# Altium footprint library GreenLED.PcbLib: 3 footprints
Each footprint in its own frame and in the unit in brackets; x right, y up, seen from the top. Pads: shape width x height; smd on the part's side, far side on the other; paste and mask are expansions set on the pad; w line width, h text height; cw(c..) or ccw(c..) is an arc to the next point about the centre after c.
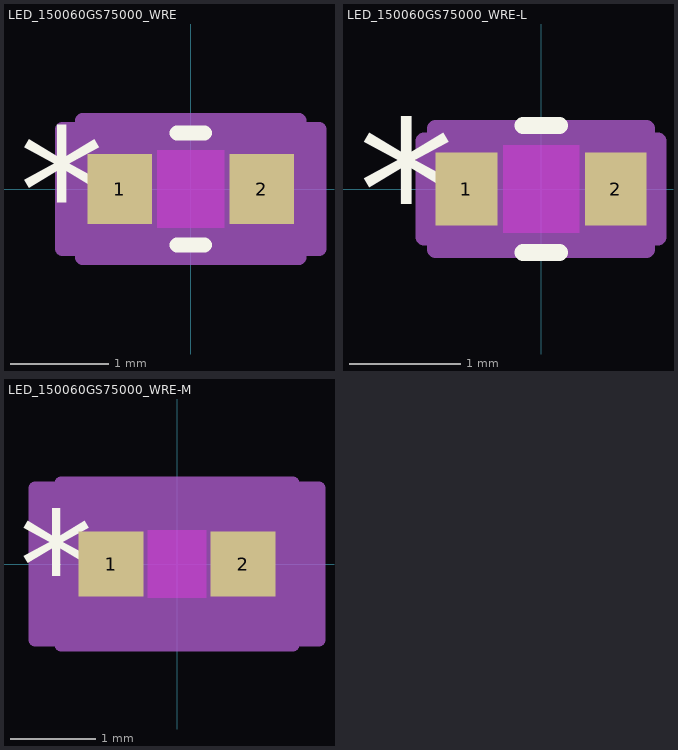
[diagram p0: the footprints below, top view; thin cyan lines are the x and y axes]

## LED_150060GS75000_WRE [mil]
pads (2):
  rect 26x28 smd paste+0 mask+0: 1(-28.5,0) 2(28.5,0)
Top Layer keep-out:
  region: -13.5,-15.5 -13.5,15.5 13.5,15.5 13.5,-15.5
Top Overlay:
  lines w6: -5.53,-22.5 5.53,-22.5 ; -5.53,22.5 5.53,22.5
  text "*" at -69,-25 h50
Keep-Out Layer:
  region: -13.5,-15.5 -13.5,15.5 13.5,15.5 13.5,-15.5
Mechanical 13:
  lines w1: -33.5,-8.75 -24.75,-17.5 ; -33.5,8.75 -24.75,17.5 ; -33.5,-14 -33.5,14 ; -33.5,-14 -33.5,14 ; -33.5,-14 -33.5,-14 ; -33.5,14 -33.5,14 ; 33.5,-14 33.5,14 ; 33.5,-14 33.5,-14 ; 33.5,-14 33.5,14 ; 33.5,14 33.5,14 ; -33.5,-17.5 33.5,-17.5 33.5,17.5 -33.5,17.5 -33.5,-17.5
  text "*" at -36,-25 h50
Mechanical 15:
  region: -43.5,-24 -51.5,-24 -51.5,24 -43.5,24 -43.5,27.5 43.5,27.5 43.5,24 51.5,24 51.5,-24 43.5,-24 43.5,-27.5 -43.5,-27.5
  lines w6: -51.5,-24 -51.5,24 -43.5,24 -43.5,27.5 43.5,27.5 43.5,24 51.5,24 51.5,-24 43.5,-24 43.5,-27.5 -43.5,-27.5 -43.5,-24 -51.5,-24
3D body "LED_150060GS75000_WRE.step": height 32.24, standoff 2.01, extent -33.5,-17.48 33.5,17.48

## LED_150060GS75000_WRE-L [mil]
pads (2):
  rect 22x26 smd paste+0 mask+0: 1(-26.5,0) 2(26.5,0)
Top Layer keep-out:
  region: -13.5,-15.5 -13.5,15.5 13.5,15.5 13.5,-15.5
Top Overlay:
  lines w6: -6.48,-22.5 6.48,-22.5 ; -6.48,22.5 6.48,22.5
  text "*" at -65,-25 h50
Keep-Out Layer:
  region: -13.5,-15.5 -13.5,15.5 13.5,15.5 13.5,-15.5
Mechanical 13:
  lines w1: -33.5,-8.75 -24.75,-17.5 ; -33.5,8.75 -24.75,17.5 ; -33.5,-14 -33.5,14 ; -33.5,-14 -33.5,14 ; -33.5,-14 -33.5,-14 ; -33.5,14 -33.5,14 ; 33.5,-14 33.5,14 ; 33.5,-14 33.5,-14 ; 33.5,-14 33.5,14 ; 33.5,14 33.5,14 ; -33.5,-17.5 33.5,-17.5 33.5,17.5 -33.5,17.5 -33.5,-17.5
  text "*" at -36,-25 h50
Mechanical 15:
  region: -37.5,-17 -41.5,-17 -41.5,17 -37.5,17 -37.5,21.5 37.5,21.5 37.5,17 41.5,17 41.5,-17 37.5,-17 37.5,-21.5 -37.5,-21.5
  lines w6: -41.5,-17 -41.5,17 -37.5,17 -37.5,21.5 37.5,21.5 37.5,17 41.5,17 41.5,-17 37.5,-17 37.5,-21.5 -37.5,-21.5 -37.5,-17 -41.5,-17
3D body "LED_150060GS75000_WRE.step": height 32.24, standoff 2.01, extent -33.5,-17.48 33.5,17.48

## LED_150060GS75000_WRE-M [mil]
pads (2):
  rect 30x30 smd paste+0 mask+0: 1(-30.5,0) 2(30.5,0)
Top Layer keep-out:
  region: -13.5,-15.5 -13.5,15.5 13.5,15.5 13.5,-15.5
Top Overlay:
  text "*" at -73,-25 h50
Keep-Out Layer:
  region: -13.5,-15.5 -13.5,15.5 13.5,15.5 13.5,-15.5
Mechanical 13:
  lines w1: -33.5,-8.75 -24.75,-17.5 ; -33.5,8.75 -24.75,17.5 ; -33.5,-14 -33.5,14 ; -33.5,-14 -33.5,14 ; -33.5,-14 -33.5,-14 ; -33.5,14 -33.5,14 ; 33.5,-14 33.5,14 ; 33.5,-14 33.5,-14 ; 33.5,-14 33.5,14 ; 33.5,14 33.5,14 ; -33.5,-17.5 33.5,-17.5 33.5,17.5 -33.5,17.5 -33.5,-17.5
  text "*" at -36,-25 h50
Mechanical 15:
  region: -53.5,-35 -65.5,-35 -65.5,35 -53.5,35 -53.5,37.5 53.5,37.5 53.5,35 65.5,35 65.5,-35 53.5,-35 53.5,-37.5 -53.5,-37.5
  lines w6: -65.5,-35 -65.5,35 -53.5,35 -53.5,37.5 53.5,37.5 53.5,35 65.5,35 65.5,-35 53.5,-35 53.5,-37.5 -53.5,-37.5 -53.5,-35 -65.5,-35
3D body "LED_150060GS75000_WRE.step": height 32.24, standoff 2.01, extent -33.5,-17.48 33.5,17.48